# EAGLE library part PCM1803 (library BurrBrownAudioParts)
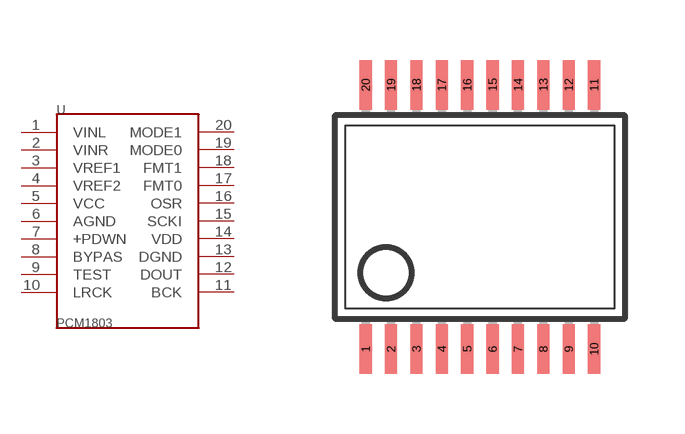
[diagram p13: symbol with the pads of SSOP20DB; footprint SSOP20DB]

Designator prefix -

## PCM1803  [SSOP20DB]
1  VINL
2  VINR
3  VREF1
4  VREF2
5  VCC
6  AGND
7  +PDWN
8  BYPAS
9  TEST
10  LRCK
11  BCK
12  DOUT
13  DGND
14  VDD
15  SCKI
16  OSR
17  FMT0
18  FMT1
19  MODE0
20  MODE1

## Footprint SSOP20DB (pad centres in mm)
Small Shrink Outline Package
smd 0.305 x 1.245: 1 -2.857,-3.302; 2 -2.222,-3.302; 3 -1.587,-3.302; 4 -0.952,-3.302; 5 -0.317,-3.302; 6 0.318,-3.302; 7 0.953,-3.302; 8 1.588,-3.302; 9 2.223,-3.302; 10 2.858,-3.302; 11 2.858,3.302; 12 2.223,3.302; 13 1.588,3.302; 14 0.953,3.302; 15 0.318,3.302; 16 -0.317,3.302; 17 -0.952,3.302; 18 -1.587,3.302; 19 -2.222,3.302; 20 -2.857,3.302